# EAGLE library part GEC07DABN-M30 (library con-sullins)
HEADER - Vertical
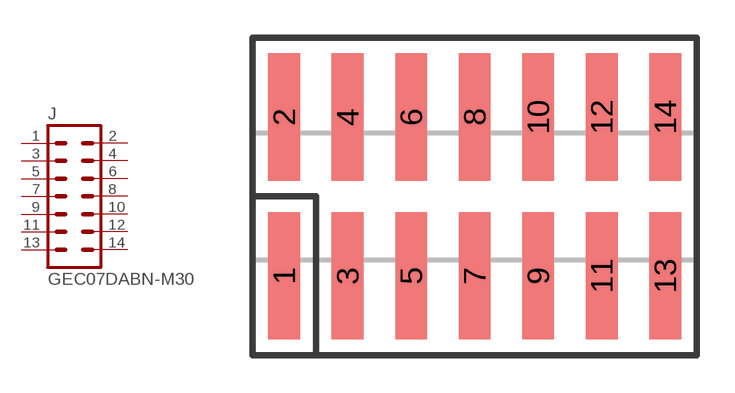
[diagram p4: symbol with the pads of GXC07; footprint GXC07]

Designator prefix J

## GEC07DABN-M30  [GXC07]
1  1  pas
2  2  pas
3  3  pas
4  4  pas
5  5  pas
6  6  pas
7  7  pas
8  8  pas
9  9  pas
10  10  pas
11  11  pas
12  12  pas
13  13  pas
14  14  pas

## Footprint GXC07 (pad centres in mm)
SMD HEADER - 0.1", Vertical
smd 1.27 x 5.08: 1 -7.62,-3.175; 2 -7.62,3.175; 3 -5.08,-3.175; 4 -5.08,3.175; 5 -2.54,-3.175; 6 -2.54,3.175; 7 0,-3.175; 8 0,3.175; 9 2.54,-3.175; 10 2.54,3.175; 11 5.08,-3.175; 12 5.08,3.175; 13 7.62,-3.175; 14 7.62,3.175